# Altium integrated library CmosTest.IntLib: 25 symbols
Pins are listed as number, name and electrical type; pins without a type are passive.

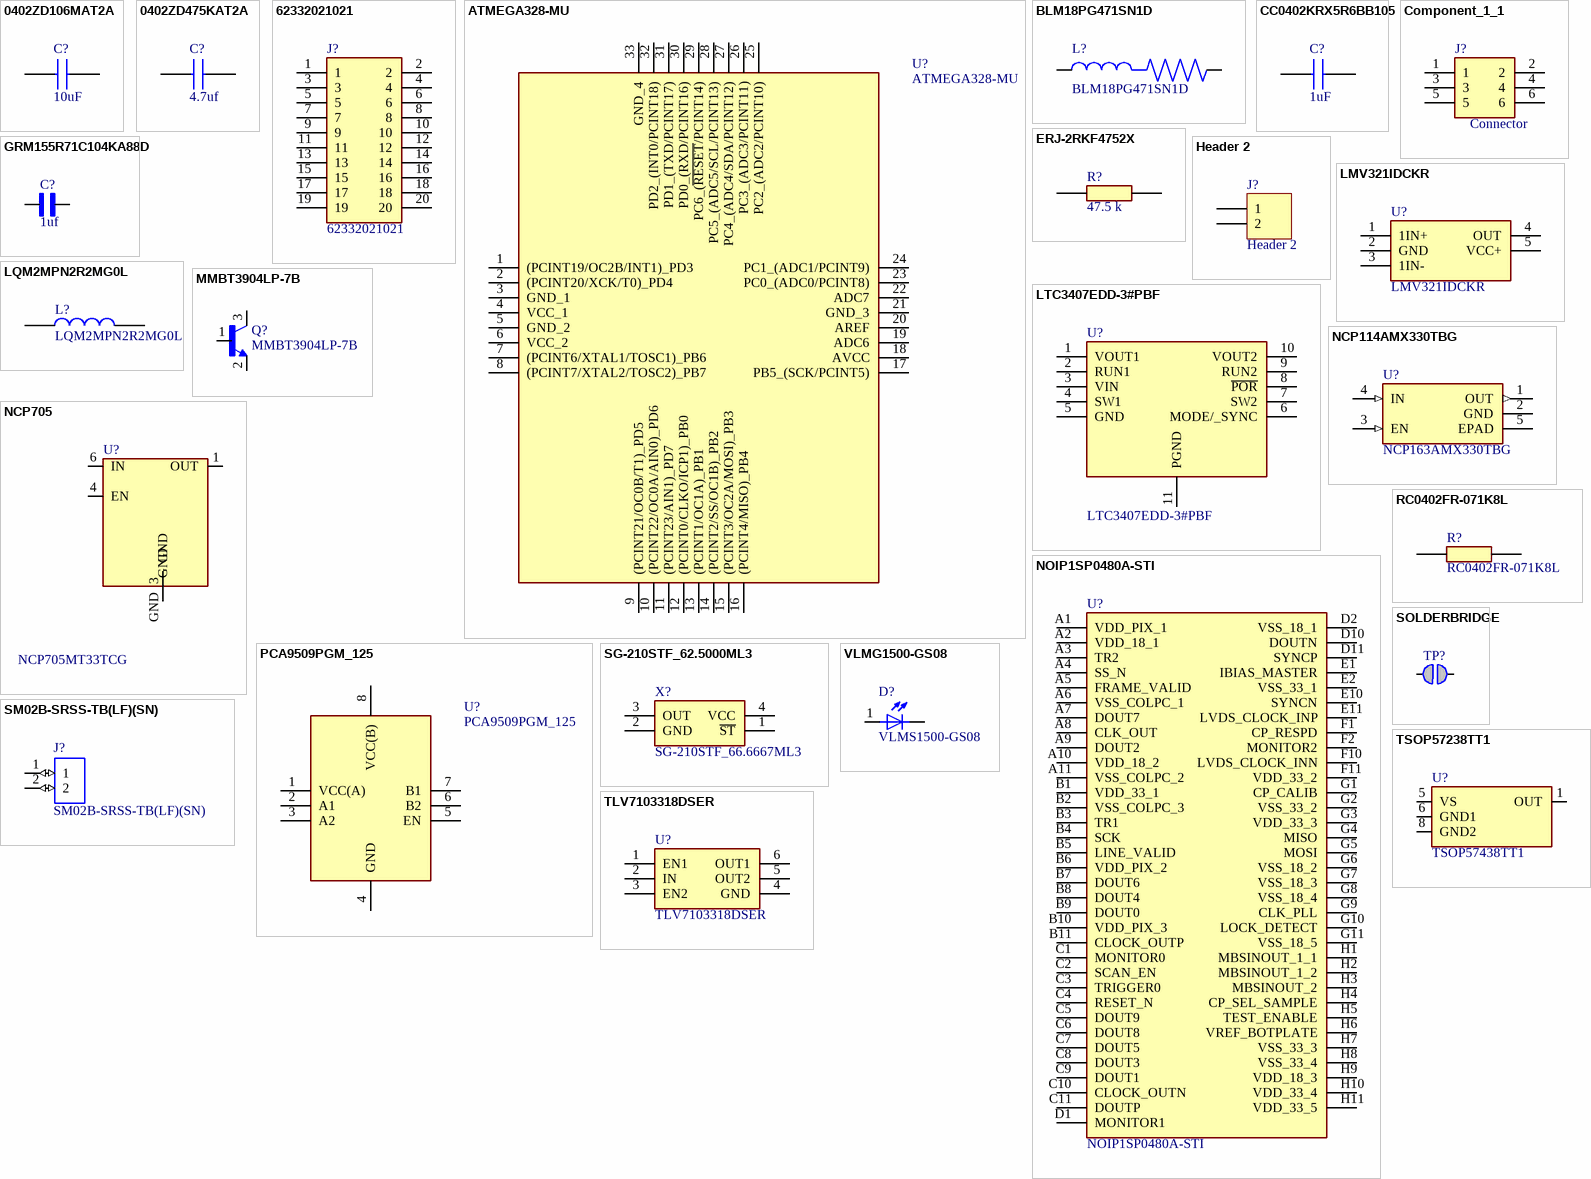
[diagram p0: symbols 0402ZD106MAT2A to VLMG1500-GS08]

## 0402ZD106MAT2A
designator C?, comment 10uF
0402ZD106MAT2A; Multilayer Ceramic Capacitors MLCC - SMD/SMT 10V 10uF X5R 0402 20% Tol; Manufacturer_Name: AVX; Geometry.Height: 0.56mm; Manufacturer_Part_Number: 0402ZD106MAT2A; Mouser Part Number: 581-0402ZD106MAT2A; Mouser Price/Stock: https://www.mouser.co.uk/ProductDetail/AVX/0402ZD106MAT2A?qs=sJ5gq5MLFXpDfmjiItAxIg%3D%3D; Arrow Part Number: 0402ZD106MAT2A; Arrow Price/Stock: https://www.arrow.com/en/products/0402zd106mat2a/avx; Datasheet Link: http://www.mouser.com/catalog/supplier/library/pdf/AVXSurfaceMountCeramic.pdf
footprint CAPC1005X56N
pins: 1, 2

## 0402ZD475KAT2A
designator C?, comment 4.7uf
0402ZD475KAT2A; Multilayer Ceramic Capacitors MLCC - SMD/SMT 10V 4.7uF 0402 10% CX5R; Manufacturer_Name: AVX; Geometry.Height: 0.56mm; Manufacturer_Part_Number: 0402ZD475KAT2A; Mouser Part Number: 581-0402ZD475KAT2A; Mouser Price/Stock: https://www.mouser.co.uk/ProductDetail/AVX/0402ZD475KAT2A?qs=%252BdQmOuGyFcGZ9hW2HGkxhw%3D%3D; Arrow Part Number: 0402ZD475KAT2A; Arrow Price/Stock: https://www.arrow.com/en/products/0402zd475kat2a/avx; Datasheet Link: http://www.mouser.com/catalog/supplier/library/pdf/AVXSurfaceMountCeramic.pdf
footprint CAPC1005X56N
pins: 1, 2

## 62332021021
designator J?
WURTH ELEKTRONIK - 62332021021 - PCB Receptacle, Board-to-Board, 1.27 mm, 2 Rows, 20 Contacts, Surface Mount, WR-PHD Series; Geometry.Height: 4.7mm; Manufacturer_Name: Wurth Elektronik; Manufacturer_Part_Number: 62332021021; Mouser Part Number: 710-62332021021; Mouser Price/Stock: https://www.mouser.co.uk/ProductDetail/Wurth-Elektronik/62332021021?qs=7D1LtPJG0i3NvUz0HzEmOg%3D%3D; Arrow Part Number: *; Arrow Price/Stock: *; Datasheet Link: https://componentsearchengine.com/Datasheets/2/62332021021.pdf
footprint 62332021021
pins: 1, 2, 3, 4, 5, 6, 7, 8, 9, 10, 11, 12, 13, 14, 15, 16, 17, 18, 19, 20

## ATMEGA328-MU
designator U?
MCU 8-bit ATmega AVR RISC 32KB Flash Atmel ATMEGA328-MU, 8bit AVR Microcontroller, 20MHz, 32 kB Flash, 32-Pin MLF; Manufacturer_Name: Microchip; Geometry.Height: 1mm; Manufacturer_Part_Number: ATMEGA328-MU; Mouser Part Number: 556-ATMEGA328-MU; Mouser Price/Stock: https://www.mouser.co.uk/ProductDetail/Microchip-Technology-Atmel/ATMEGA328-MU?qs=lwdSMh1%2FoYLgRc0I%252Bdg4Ag%3D%3D; Arrow Part Number: ATMEGA328-MU; Arrow Price/Stock: https://www.arrow.com/en/products/atmega328-mu/microchip-technology?region=europe; Datasheet Link: https://componentsearchengine.com/Datasheets/2/ATMEGA328-MU.pdf
footprint QFN50P500X500X100-33N-D
pins: 1 (PCINT19/OC2B/INT1)_PD3, 2 (PCINT20/XCK/T0)_PD4, 3 GND_1, 4 VCC_1, 5 GND_2, 6 VCC_2, 7 (PCINT6/XTAL1/TOSC1)_PB6, 8 (PCINT7/XTAL2/TOSC2)_PB7, 9 (PCINT21/OC0B/T1)_PD5, 10 (PCINT22/OC0A/AIN0)_PD6, 11 (PCINT23/AIN1)_PD7, 12 (PCINT0/CLKO/ICP1)_PB0, 13 (PCINT1/OC1A)_PB1, 14 (PCINT2/SS/OC1B)_PB2, 15 (PCINT3/OC2A/MOSI)_PB3, 16 (PCINT4/MISO)_PB4, 17 PB5_(SCK/PCINT5), 18 AVCC, 19 ADC6, 20 AREF, 21 GND_3, 22 ADC7, 23 PC0_(ADC0/PCINT8), 24 PC1_(ADC1/PCINT9), 25 PC2_(ADC2/PCINT10), 26 PC3_(ADC3/PCINT11), 27 PC4_(ADC4/SDA/PCINT12), 28 PC5_(ADC5/SCL/PCINT13), 29 PC6_(~{RESET}/PCINT14), 30 PD0_(RXD/PCINT16), 31 PD1_(TXD/PCINT17), 32 PD2_(INT0/PCINT18), 33 GND_4

## BLM18PG471SN1D
designator L?
470 Ohms @ 100MHz 1 Power Line Ferrite Bead 0603 _1608 Metric_ 1A 200mOhm; MF: Murata; Digi-Key_Purchase_URL: https://www.digikey.com.au/product-detail/en/murata-electronics/BLM18PG471SN1D/490-5223-1-ND/1948399?utm_source=snapeda&utm_medium=aggregator&utm_campaign=symbol; Value: *; Package: 1608 Murata; Digi-Key_Part_Number: 490-5223-1-ND; SnapEDA_Link: https://www.snapeda.com/parts/BLM18PG471SN1D/Murata/view-part/234090/?ref=snap; MP: BLM18PG471SN1D
footprint BEADC1608X95N
pins: 1, 2

## CC0402KRX5R6BB105
designator C?, comment 1uF
General purpose & High capacitance Class 2, X5R; Manufacturer_Name: KEMET; Manufacturer_Part_Number: CC0402KRX5R6BB105; Geometry.Height: 0.55mm; Mouser Part Number: 603-CC402KRX5R6BB105; Mouser Price/Stock: https://www.mouser.co.uk/ProductDetail/YAGEO/CC0402KRX5R6BB105?qs=BKNoF%2F0xMNu0TvpE6ze2Iw%3D%3D; Arrow Part Number: *; Arrow Price/Stock: *; Datasheet Link: https://www.mouser.co.uk/datasheet/2/447/UPY-GPHC_X5R_4V-to-50V_25-1131599.pdf
footprint CAPC1005X55N
pins: 1, 2

## Component_1_1
designator J?, comment Component_1  (value not drawn)
footprint PCBComponent_1
pins: 1, 2, 3, 4, 5, 6
text: Connector

## ERJ-2RKF4752X
designator R?, comment 47.5 k
ERJ-2RKF4752X; Panasonic Surface Mount Fixed Resistor 47.5 k 0.1 W +/-100 ppm/C; Geometry.Height: 0.4mm; Manufacturer_Name: Panasonic; Manufacturer_Part_Number: ERJ-2RKF4752X; Mouser Part Number: 667-ERJ-2RKF4752X; Mouser Price/Stock: https://www.mouser.co.uk/ProductDetail/Panasonic/ERJ-2RKF4752X?qs=YMBIwoNQYdVljEm11tR4kg%3D%3D; Arrow Part Number: ERJ-2RKF4752X; Arrow Price/Stock: https://www.arrow.com/en/products/erj-2rkf4752x/panasonic; Datasheet Link: https://industrial.panasonic.com/cdbs/www-data/pdf/RDA0000/AOA0000C86.pdf
footprint ERJ2RKD1004X
footprint RESC1005X40N
pins: 1, 2

## GRM155R71C104KA88D
designator C?, comment 1uf
SMD Capacitor X7R_EIA_ with Capacitance: 0.10uF Tol. 10%. Rated Voltage: 16Vdc; MF: Murata; MP: GRM155R71C104KA88D; Package: 1005 Taiyo Yuden; Value: *; SnapEDA_Link: https://www.snapeda.com/parts/GRM155R71C104KA88D/Murata%20Electronics%20North%20America/view-part/4750/?ref=snap
footprint CAPC1005X55N
pins: 1, 2

## Header 2
designator J?
Header, 2-Pin; LatestRevisionDate: 17-Jul-2002; LatestRevisionNote: Re-released for DXP Platform.; Publisher: Altium Limited
footprint HDR1X2 (Connector; Header; 2 Position)
signal-integrity model Connector
footprint Head2_pad
pins: 1, 2

## LMV321IDCKR
designator U?
Single Low-Voltage Rail-to-Rail Output Operational Amplifier  see LMV321A for upgraded version; Manufacturer_Name: Texas Instruments; Geometry.Height: 1.1mm; Manufacturer_Part_Number: LMV321IDCKR; Mouser Part Number: 595-LMV321IDCKR; Mouser Price/Stock: https://www.mouser.co.uk/ProductDetail/Texas-Instruments/LMV321IDCKR?qs=p6YqzpSxLIzuatXd1sAikQ%3D%3D; Arrow Part Number: LMV321IDCKR; Arrow Price/Stock: https://www.arrow.com/en/products/lmv321idckr/texas-instruments?region=nac; Datasheet Link: http://www.ti.com/lit/ds/symlink/lmv324.pdf
footprint SOT65P210X110-5N
pins: 1 1IN+, 2 GND, 3 1IN-, 4 OUT, 5 VCC+

## LQM2MPN2R2MG0L
designator L?
LQM2MPN_G0 Series Inductor 2.2uH +/-20% 0806 (2016); Manufacturer_Name: Murata Electronics; Geometry.Height: 1mm; Manufacturer_Part_Number: LQM2MPN2R2MG0L; Mouser Part Number: 81-LQM2MPN2R2MG0L; Mouser Price/Stock: https://www.mouser.co.uk/ProductDetail/Murata-Electronics/LQM2MPN2R2MG0L?qs=YinlzBdtFMj9%2Fj5t8GanUg%3D%3D; Arrow Part Number: LQM2MPN2R2MG0L; Arrow Price/Stock: https://www.arrow.com/en/products/lqm2mpn2r2mg0l/murata-manufacturing?region=nac; Datasheet Link: https://psearch.en.murata.com/inductor/product/LQM2MPN2R2MG0%23.html
footprint LQM2MPN1R0NG0L
pins: 1, 2

## LTC3407EDD-3#PBF
designator U?
BUCK, SYNCH, DUAL, 0.8A, 2.25MHZ, 10MSOP; Manufacturer_Name: Analog Devices; Geometry.Height: 0.8mm; Manufacturer_Part_Number: LTC3407EDD-3#PBF; Mouser Part Number: 584-LTC3407EDD-3#PBF; Mouser Price/Stock: https://www.mouser.com/Search/Refine.aspx?Keyword=584-LTC3407EDD-3%23PBF; Arrow Part Number: LTC3407EDD-3#PBF; Arrow Price/Stock: https://www.arrow.com/en/products/ltc3407edd-3pbf/analog-devices; Datasheet Link: https://datasheet.datasheetarchive.com/originals/distributors/SFDatasheet-4/sf-00091830.pdf
footprint SON50P300X300X80-11N-D
pins: 1 VOUT1, 2 RUN1, 3 VIN, 4 SW1, 5 GND, 6 MODE/_SYNC, 7 SW2, 8 ~{POR}, 9 RUN2, 10 VOUT2, 11 PGND

## MMBT3904LP-7B
designator Q?
Bipolar _BJT_ Transistor NPN 40V 200mA 300MHz 250mW Surface Mount 3-X1DFN1006; MF: Diodes Inc.; Package: DFN-3 Diodes Inc.; Digi-Key_Part_Number: MMBT3904LP-7BDICT-ND; SnapEDA_Link: https://www.snapeda.com/parts/MMBT3904LP-7B/Diodes%20Inc./view-part/587248/?ref=snap; Digi-Key_Purchase_URL: https://www.digikey.ru/product-detail/en/diodes-incorporated/MMBT3904LP-7B/MMBT3904LP-7BDICT-ND/2756024?utm_source=snapeda&utm_medium=aggregator&utm_campaign=symbol; MP: MMBT3904LP-7B; Value: *
footprint TRANS_MMBT3904LP-7B
pins: 1 B, 2 E, 3 C

## NCP114AMX330TBG
designator U?, comment NCP163AMX330TBG
NCP163(Vi 2.2-5..5V); Linear Voltage Regulator IC Positive Fixed 1 Output 250mA 4-UDFN _1.0x1.0_; MP: NCP114AMX330TBG; MF: ON Semiconductor; Availability: Unavailable; Package: UDFN-4 ON Semiconductor; Value: *; Price: None; SnapEDA_Link: https://www.snapeda.com/parts/NCP114AMX330TBG/ON%20Semiconductor/view-part/711351/?ref=snap
footprint REG_NCP114AMX330TBG
pins: 1 OUT (out), 2 GND (power), 3 EN (in), 4 IN (in), 5 EPAD

## NCP705
designator U?, comment NCP705MT33TCG
Ultra-Low Quiescent Current, Ultra-Low Noise, LDO Voltage Regulator<br> <br> Data sheet: <br> http://www.onsemi.com/pub_link/Collateral/NCP705-D.PDF<br>; MP: NCP705; Package: None; Price: None; Value: *; Availability: Unavailable
footprint WDFN6
pins: 1 OUT (io), 3 GND (io), 4 EN (io), 6 IN (io), GND (io)

## NOIP1SP0480A-STI
designator U?
Image Sensors PYTHON480 1/3.6 BW_ CRA; Manufacturer_Name: onsemi; Geometry.Height: 0.75mm; Manufacturer_Part_Number: NOIP1SP0480A-STI; Mouser Part Number: 863-NOIP1SP0480A-STI; Mouser Price/Stock: https://www.mouser.co.uk/ProductDetail/ON-Semiconductor/NOIP1SP0480A-STI?qs=MLItCLRbWsyoZFKf%252BDS9uw%3D%3D; Arrow Part Number: *; Arrow Price/Stock: *; Datasheet Link: https://www.onsemi.com/pdf/datasheet/noip1sn0480a-d.pdf
footprint NOIP1SP0480ASTI
pins: A1 VDD_PIX_1, A2 VDD_18_1, A3 TR2, A4 SS_N, A5 FRAME_VALID, A6 VSS_COLPC_1, A7 DOUT7, A8 CLK_OUT, A9 DOUT2, A10 VDD_18_2, A11 VSS_COLPC_2, B1 VDD_33_1, B2 VSS_COLPC_3, B3 TR1, B4 SCK, B5 LINE_VALID, B6 VDD_PIX_2, B7 DOUT6, B8 DOUT4, B9 DOUT0, B10 VDD_PIX_3, B11 CLOCK_OUTP, C1 MONITOR0, C2 SCAN_EN, C3 TRIGGER0, C4 RESET_N, C5 DOUT9, C6 DOUT8, C7 DOUT5, C8 DOUT3, C9 DOUT1, C10 CLOCK_OUTN, C11 DOUTP, D1 MONITOR1, D2 VSS_18_1, D10 DOUTN, D11 SYNCP, E1 IBIAS_MASTER, E2 VSS_33_1, E10 SYNCN, E11 LVDS_CLOCK_INP, F1 CP_RESPD, F2 MONITOR2, F10 LVDS_CLOCK_INN, F11 VDD_33_2, G1 CP_CALIB, G2 VSS_33_2, G3 VDD_33_3, G4 MISO, G5 MOSI, G6 VSS_18_2, G7 VSS_18_3, G8 VSS_18_4, G9 CLK_PLL, G10 LOCK_DETECT, G11 VSS_18_5, H1 MBSINOUT_1_1, H2 MBSINOUT_1_2, H3 MBSINOUT_2, H4 CP_SEL_SAMPLE, H5 TEST_ENABLE, H6 VREF_BOTPLATE, H7 VSS_33_3, H8 VSS_33_4, H9 VDD_18_3, H10 VDD_33_4, H11 VDD_33_5

## PCA9509PGM_125
designator U?
Interface - Signal Buffers, Repeaters I2C/SMBus IC REDRIVER I2C 2CH 400KHZ 8XQFN Repeater Buffer, ReDriver 2 Channel 400kHz 8-XQFN (1.6x1.6); Manufacturer_Name: NXP; Manufacturer_Part_Number: PCA9509PGM,125; Geometry.Height: 0.5mm; Mouser Part Number: 771-PCA9509PGM,125; Mouser Price/Stock: https://www.mouser.co.uk/ProductDetail/NXP-Semiconductors/PCA9509PGM125?qs=vnbNJPHmPnOjnFlZ8zO94w%3D%3D; Arrow Part Number: PCA9509PGM,125; Arrow Price/Stock: https://www.arrow.com/en/products/pca9509pgm125/nxp-semiconductors?region=nac; Datasheet Link: http://www.nxp.com/docs/en/data-sheet/PCA9509P.pdf
footprint PCA9509PGM125
pins: 1 VCC(A), 2 A1, 3 A2, 4 GND, 5 EN, 6 B2, 7 B1, 8 VCC(B)

## RC0402FR-071K8L
designator R?
RESISTOR, 0402 1.8K Ohms +/-1% 1/16 W; Manufacturer_Name: KEMET; Geometry.Height: 0.4mm; Manufacturer_Part_Number: RC0402FR-071K8L; Mouser Part Number: 603-RC0402FR-071K8L; Mouser Price/Stock: https://www.mouser.co.uk/ProductDetail/Yageo/RC0402FR-071K8L/?qs=YUgVZYePFqBqgTt42z3XkQ%3D%3D; Arrow Part Number: RC0402FR-071K8L; Arrow Price/Stock: https://www.arrow.com/en/products/rc0402fr-071k8l/yageo; Datasheet Link: http://www.yageo.com/documents/recent/PYu-RC0402_51_RoHS_L_6_r.pdf
footprint RESC1005X40N
pins: 1, 2

## SG-210STF_62.5000ML3
designator X?, comment SG-210STF_66.6667ML3
Standard Clock Oscillators 66.6666MHz 50ppm -40C +85C; Manufacturer_Name: Epson Timing; Manufacturer_Part_Number: SG-210STF 62.5000ML3; Geometry.Height: 0.9mm; Mouser Part Number: 732-SG210STF62.500L3; Mouser Price/Stock: https://www.mouser.co.uk/ProductDetail/Epson-Timing/SG-210STF-62.5000ML3?qs=6J2kD0vu%2F2XqkCRh4YYW9A%3D%3D; Arrow Part Number: *; Arrow Price/Stock: *; Datasheet Link: https://componentsearchengine.com/Datasheets/1/SG-210STF 62.5000ML3.pdf
footprint SG210STF625000ML3
pins: 1 ~{ST}, 2 GND, 3 OUT, 4 VCC

## SM02B-SRSS-TB(LF)(SN)
designator J?
Connector Header Surface Mount, Right Angle 2 position 0.039 _1.00mm_; MP: SM02B-SRSS-TB_LF__SN_; MF: JST Sales; SnapEDA_Link: https://www.snapeda.com/parts/SM02B-SRSS-TB%28LF%29%28SN%29/JST%20Sales%20America%20Inc./view-part/447499/?ref=snap; Price: None; Value: *; Availability: Unavailable; Package: None
footprint SM02B-SRSS-TB(LF)(SN)
pins: 1 (io), 2 (io)

## SOLDERBRIDGE
designator TP?, comment Solderbridge  (value not drawn)  (no BOM)
Manufacturer: N.A.; Pad Count: 2; Part Number: Solderbridge; Manufacturer Part Number: N.A.; LatestRevisionDate: 2009-12-14; Published: 2009-12-14; Value: Solderbridge; Note: N.A.; Artikkelnr Noca: N.A.; Footprint Doc: Solderbridge; Part number IPS: N.A.; ComponentLink1URL: N.A.; ComponentLink1Description: Datasheet; ComponentLink2URL: N.A.; ComponentLink2Description: Supplier link; HelpURL: N.A.; Supplier 1: N.A.; Supplier Part Number 1: N.A.; Supplier 2: N.A.; Supplier Part Number 2: N.A.; PartId: 100500458; Component Class: Connectors; Author: rsk; Part number Norautron: N.A.
footprint Solderbridge
pins: 1 0, 2 1

## TLV7103318DSER
designator U?
Manufacturer_Name: Texas Instruments; Geometry.Height: 0.8mm; Manufacturer_Part_Number: TLV7103318DSER; Mouser Part Number: 595-TLV7103318DSER; Mouser Price/Stock: https://www.mouser.co.uk/ProductDetail/Texas-Instruments/TLV7103318DSER?qs=UlfnwZ2x8nSAnP31dntgZA%3D%3D; Arrow Part Number: TLV7103318DSER; Arrow Price/Stock: https://www.arrow.com/en/products/tlv7103318dser/texas-instruments?region=nac; Datasheet Link: https://pdf1.alldatasheet.com/datasheet-pdf/view/457316/TI1/TLV7103318DSER.html
footprint SON50P150X150X80-6N
pins: 1 EN1, 2 IN, 3 EN2, 4 GND, 5 OUT2, 6 OUT1

## TSOP57238TT1
designator U?, comment TSOP57438TT1
Remote Receiver Sensor, 38.0kHz 40m Surface Mount; MP: TSOP57238TT1; MF: Vishay Semiconductor; SnapEDA_Link: https://www.snapeda.com/parts/TSOP57238TT1/Vishay%20Semiconductor%20Opto%20Division/view-part/395850/?ref=snap; Availability: Warning; Purchase-URL: https://pricing.snapeda.com/search/part/TSOP57238TT1/?ref=eda; Check_prices: https://www.snapeda.com/parts/TSOP57238TT1/Vishay%20Semiconductor%20Opto%20Division/view-part/395850/?ref=eda; Price: None; Value: *; Package: None
footprint TSOP572
pins: 1 OUT (io), 5 VS (io), 6 GND1 (io), 8 GND2 (io)

## VLMG1500-GS08
designator D?, comment VLMS1500-GS08
Yellow-Green 571nm LED Indication - Discrete 2V 0402 _1005 Metric_; MF: Vishay; MP: VLMG1500-GS08; Price: None; Availability: Unavailable; Package: 0402 Vishay; SnapEDA_Link: https://www.snapeda.com/parts/VLMG1500-GS08/Vishay%20Semiconductor%20Opto%20Division/view-part/450066/?ref=snap; Value: *
footprint LEDC1005X35N
pins: 1, 2